# Altium schematic symbol library Res_Panasonic_549Ohm_ERA-3AED5490V.SchLib: 1 symbol
Pins are listed as number, name and electrical type; pins without a type are passive.

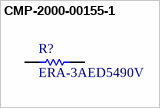
[diagram p0: symbol CMP-2000-00155-1]

## CMP-2000-00155-1
designator R?, comment ERA-3AED5490V
Manufacturer: Panasonic; Part Number: ERA-3AED5490V
footprint RESC1608X55X30NL20T20 (Chip Resistor, 2-Leads, Body 1.60x0.80mm, IPC Medium Density)
pins: 1, 2
1 alternate drawing of the same symbol